# EAGLE library part DIP_SW_5P (library F030NG)
DIP Switch 5 pole by CTS
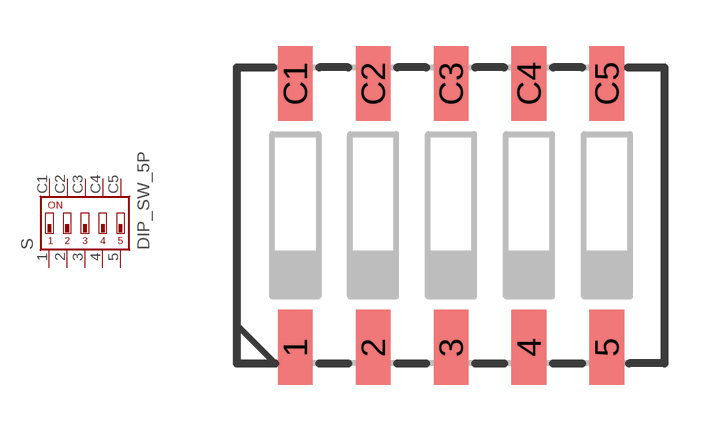
[diagram p76: symbol with the pads of CTS-214-05/SPST; footprint CTS-214-05/SPST]

Designator prefix S

## DIP_SW_5P  [CTS-214-05/SPST]
1  1  pas
2  2  pas
3  3  pas
4  4  pas
5  5  pas
C1  C1  pas
C2  C2  pas
C3  C3  pas
C4  C4  pas
C5  C5  pas

## Footprint CTS-214-05/SPST (pad centres in mm)
Surface Mount DIP Switch Series 219 SMT "J" Bend CTS Electronic Components Sourc: www.ctscorp.com
smd 1.13 x 2.44: 1 -5.08,-4.3; 2 -2.54,-4.3; 3 0,-4.3; 4 2.54,-4.3; 5 5.08,-4.3; C1 -5.08,4.3; C2 -2.54,4.3; C3 0,4.3; C4 2.54,4.3; C5 5.08,4.3